# Altium footprint library USB-A003.PcbLib: 1 footprints
Each footprint in its own frame and in the unit in brackets; x right, y up, seen from the top. Pads: shape width x height; smd on the part's side, far side on the other; paste and mask are expansions set on the pad; w line width, h text height; cw(c..) or ccw(c..) is an arc to the next point about the centre after c.
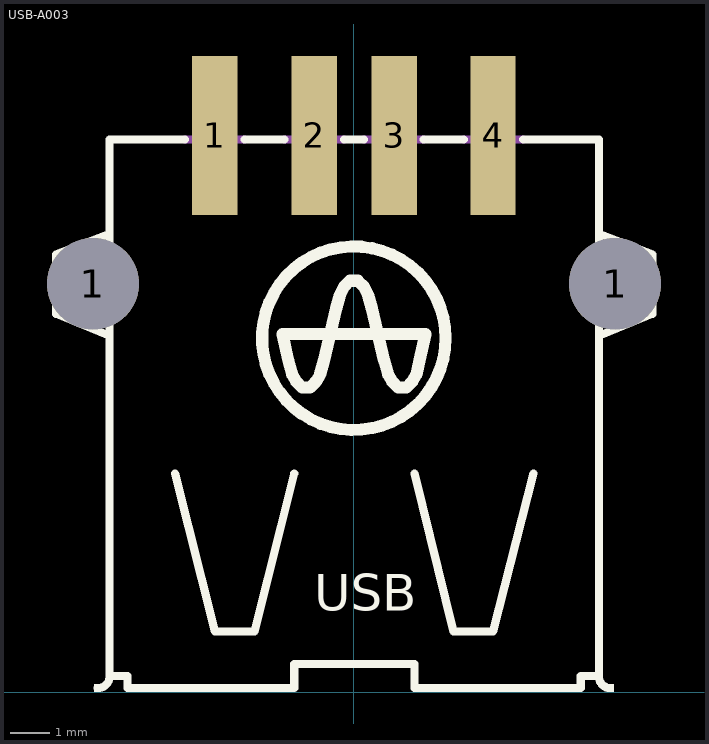
[diagram p0: the footprint, top view; thin cyan lines are the x and y axes]

## USB-A003 [mil]
pads (6):
  round 91 hole 91: 1(-258.66,405) 1(259,405)
  rect 45x158 smd: 1(-137.8,552) 2(-39.37,552) 3(40,552) 4(138,552)
Top Overlay:
  circle w12: c0,351 r91
  rectangle: -257.87,0 -253.94,8
  rectangle: 254,0 258,8
  lines w8: -253.94,4 ccw(c-254.03,15.91) -242.13,16 ; -246.06,355 -295.28,375 -295.28,434 -246.06,453 ; -177.17,217 -137.8,60 -98.43,60 -59.06,217 ; -167.32,548 -242.13,548 -242.13,16 ; -108.27,548 -68.9,548 ; -9.84,548 10,548 ; 60,217 99,60 138,60 178,217 ; 69,548 109,548 ; 168,548 243,548 243,16 ; 247,355 296,375 296,434 247,453 ; 254,4 cw(c254.5,15.5) 243,16 ; -242.13,16 -224.41,16 -224.41,4 -59.06,4 -59.06,28 60,28 60,4 225,4 225,16 243,16
  lines w12: -70.87,355 -64.96,329 -61.02,315 -57.09,308 -51.18,302 -43.31,302 -37.4,308 -33.46,315 -29.53,329 -17.72,380 -13.78,394 -9.84,402 -3.94,408 4,408 10,402 14,394 18,380 30,329 34,315 38,308 44,302 52,302 58,308 62,315 65,329 71,355 ; -68.9,355 69,355
  text "USB" at -39.37,69 h62
Mechanical 16:
  lines w8: -167.32,548 -108.27,548 ; -68.9,548 -9.84,548 ; 10,548 69,548 ; 109,548 168,548